# EAGLE library part 7-SEG_ (library MCE_Displays)
45mm (1.8INCH) SINGLE DIGIT NUMERIC DISPLAY Source: American Opto Plus LED A1801X G/W Data sheet <https://www.aopled.com/AOP_PDFs/CA1801G_GW.pdf>
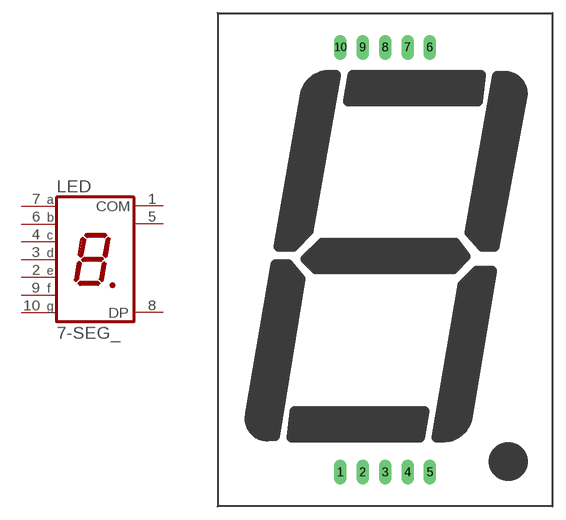
[diagram p3: symbol with the pads of C/A1801XG/W; footprint C/A1801XG/W]

Designator prefix LED

## 7-SEG_A1801SR  [C/A1801XG/W]
1  COM  pas
2  E  pas
3  D  pas
4  C  pas
5  COM  pas
6  B  pas
7  A  pas
8  DP  pas
9  F  pas
10  G  pas

## 7-SEG_C1801Y  [C/A1801XG/W]
Pads as for C/A1801XG/W

## Footprint C/A1801XG/W (pad centres in mm)
45mm (1.8INCH) SINGLE DIGIT NUMERIC DISPLAY Source: American Opto Plus LED A1801X G/W Data sheet <https://www.aopled.com/AOP_PDFs/CA1801G_GW.pdf>
drill 0.7 pad 1.422 long: 1 -5.08,-24.13; 2 -2.54,-24.13; 3 0,-24.13; 4 2.54,-24.13; 5 5.08,-24.13; 6 5.08,24.13; 7 2.54,24.13; 8 0,24.13; 9 -2.54,24.13; 10 -5.08,24.13